# Altium integrated library Analog Devices Data Converters Analog-to-Digital Converters.IntLib: 2400 symbols (part 18 of 338)
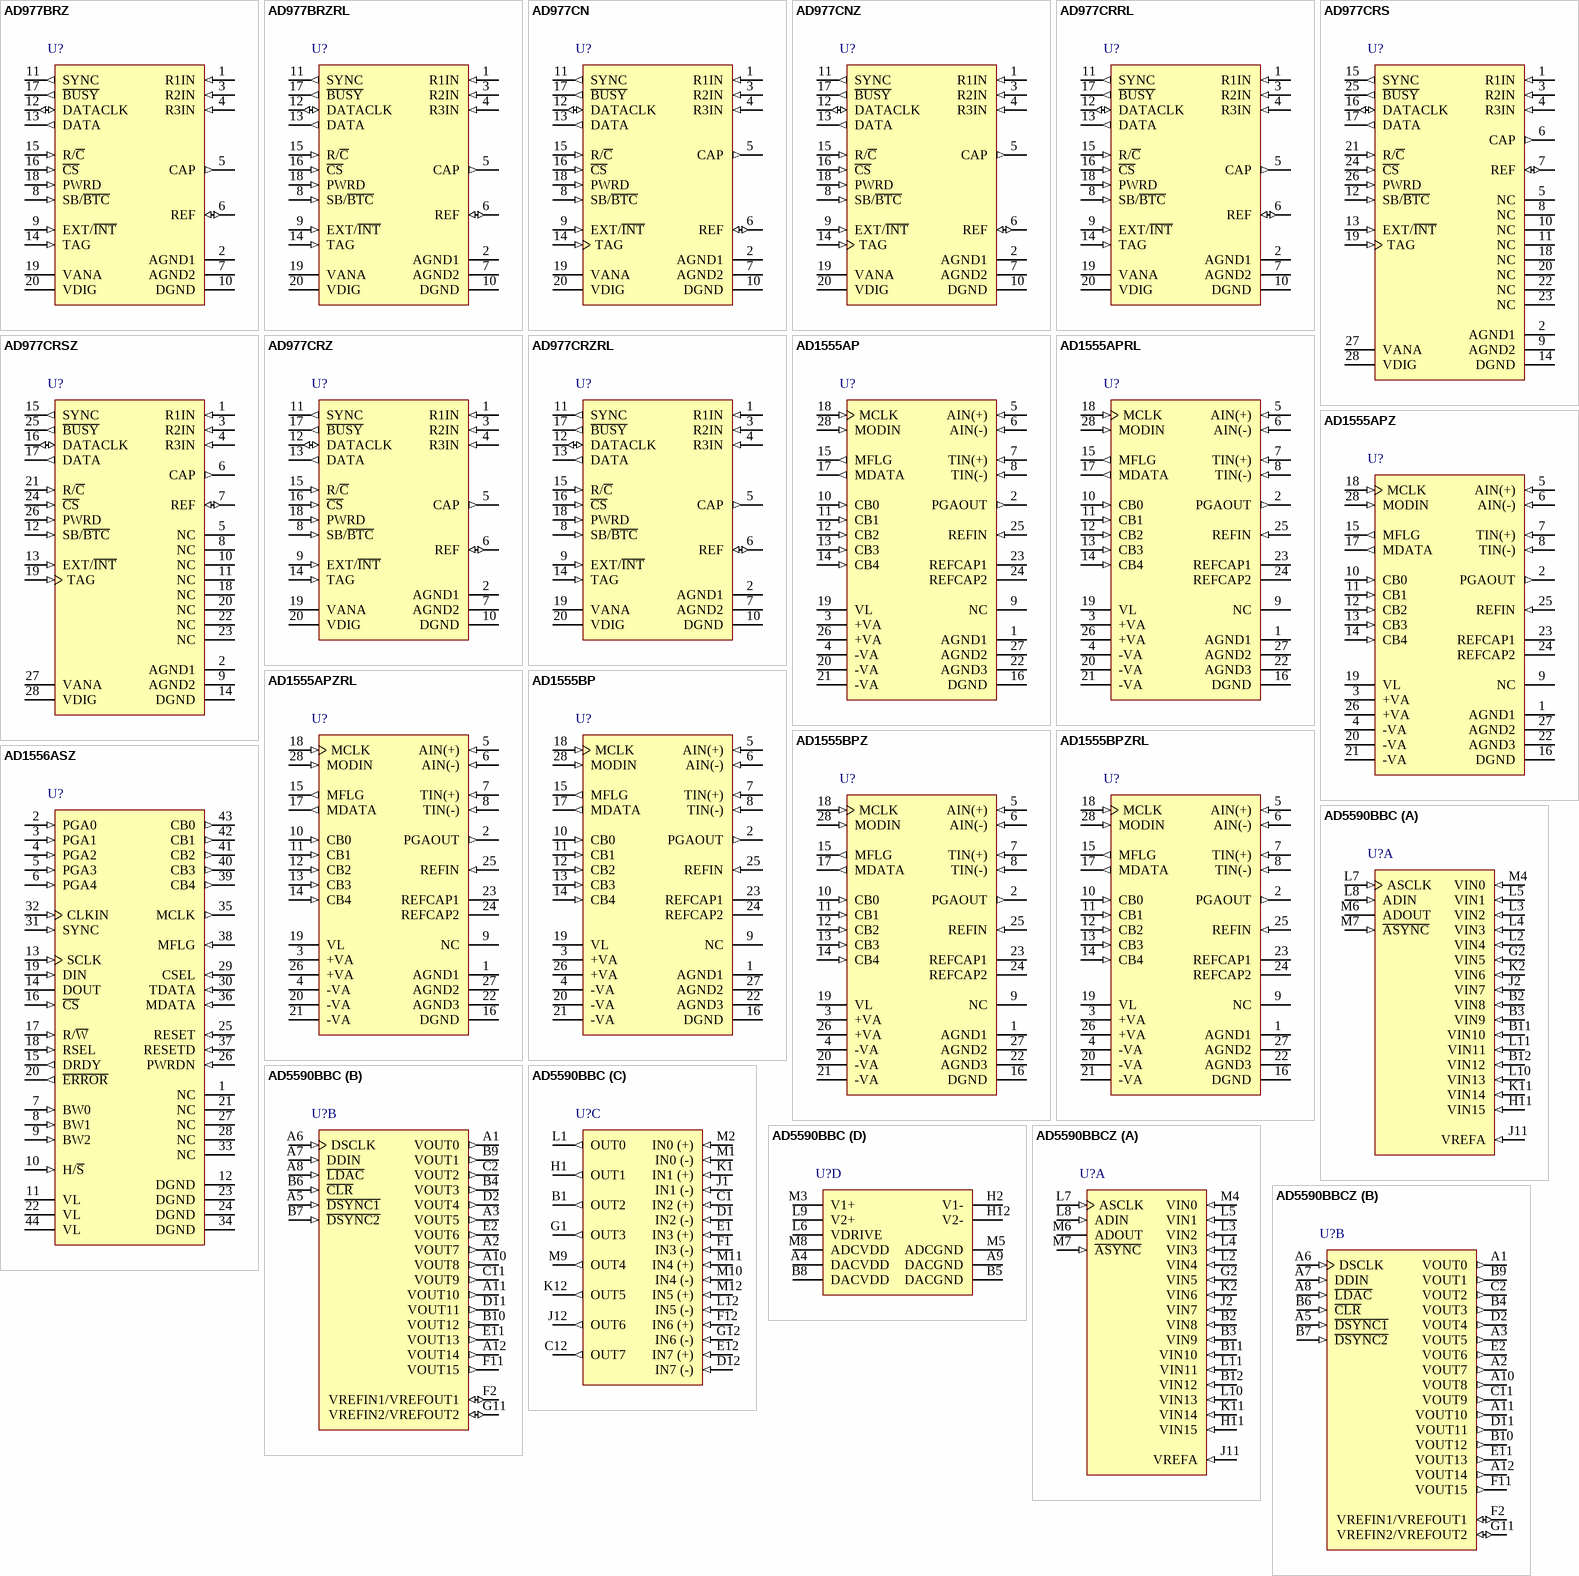
[diagram p264: symbols AD977BRZ to AD5590BBCZ]

## AD1555APZRL
designator U?
Dual 24-Bit Low Noise Sigma-Delta Analog-to-Digital Converter with Byte, Serial Interface and Low Noise PGA, 16KSPS, 0 to 85 degC, P-28, Pb-Free, Reel; Part Number: AD1555; Manufacturer: Analog Devices; Resolution (Bits): 24; Channels: 2; Throughput Rate (SPS): 16K; DatasheetVersion: Rev.B; PackageVersion: 042508-A; PackageReference: P-28; PackageDescription: 28-Lead Plastic Leaded Chip Carrier [PLCC]; Interface: Byte, Ser; RoHS: Y; Packing: Reel; Mounting Technology: Surface Mount; Code_JEDEC: MO-047-AB; ComponentLink1Description: Manufacturer URL; ComponentLink1URL: http://www.analog.com/en/index.html; ComponentLink2Description: Datasheet; ComponentLink2URL: http://www.analog.com/static/imported-files/data_sheets/AD1555_1556.pdf; ComponentLink3Description: Package Specification; ComponentLink3URL: http://www.analog.com/static/imported-files/packages/PKG_PDF/PLCC(P)/P_28.pdf; ComponentLink4Description: Product URL; ComponentLink4URL: http://www.analog.com/en/analog-to-digital-converters/ad-converters/ad1555/products/product.html
footprint P-28_N (Leaded Chip Carrier, 28-Leads, Body 11.5x11.5mm, Pitch 1.27mm, IPC Medium Density)
footprint P-28_L (Leaded Chip Carrier, 28-Leads, Body 11.5x11.5mm, Pitch 1.27mm, IPC High Density)
footprint P-28_M (Leaded Chip Carrier, 28-Leads, Body 11.5x11.5mm, Pitch 1.27mm, IPC Low Density)
pins: 1 AGND1 (power) "Analog Ground", 2 PGAOUT (out) "Programmable Gain Amplifier Output. The output of the on-chip programmable gain amplifier is available at this pin. Refer to Table III for PGA gain settings selection.", 3 +VA (power) "Positive Analog Supply Voltage. +5 V nominal.", 4 -VA (power) "Negative Analog Supply Voltage. -5 V nominal.", 5 AIN(+) (in) "Mux Input. Noninverting signal to the PGA mux input. Refer to Table III for input selection.", 6 AIN(-) (in) "Mux Input. Inverting signal to the PGA mux input. Refer to Table III for input selection.", 7 TIN(+) (in) "Mux Input. Noninverting test signal to the PGA mux input. Refer to Table III for input selection.", 8 TIN(-) (in) "Mux Input. Inverting test signal to the PGA mux input. Refer to Table III for input selection.", 9 NC "Pin for Factory Use Only. This pin must be kept not connected for normal operation.", 10 CB0 (in) "Modulator Control. These input pins control the mux selection, the PGA gain settings, and the standby modes of the AD1555. When used with the AD1556, these pins are generally directly tied to the CB0-CB4 output pins of the (See Datasheet)", 11 CB1 (in) "Modulator Control. These input pins control the mux selection, the PGA gain settings, and the standby modes of the AD1555. When used with the AD1556, these pins are generally directly tied to the CB0-CB4 output pins of the (See Datasheet)", 12 CB2 (in) "Modulator Control. These input pins control the mux selection, the PGA gain settings, and the standby modes of the AD1555. When used with the AD1556, these pins are generally directly tied to the CB0-CB4 output pins of the (See Datasheet)", 13 CB3 (in) "Modulator Control. These input pins control the mux selection, the PGA gain settings, and the standby modes of the AD1555. When used with the AD1556, these pins are generally directly tied to the CB0-CB4 output pins of the (See Datasheet)", 14 CB4 (in) "Modulator Control. These input pins control the mux selection, the PGA gain settings, and the standby modes of the AD1555. When used with the AD1556, these pins are generally directly tied to the CB0-CB4 output pins of the (See Datasheet)", 15 MFLG (out) "Modulator Error. Digital output that is pulsed high if an overrange condition occurs in the modulator.", 16 DGND (power) "Digital Ground", 17 MDATA (out) "Modulator Output. The bitstream generated by the modulator is output in a return-to-zero data format. The data is valid for approximately one-half a MCLK cycle. Refer to Figure 3.", 18 MCLK (in) "Clock Input. The clock input signal, nominally 256 kHz, provides the necessary clock for the sigma-? modulator. When this input is static, AD1555 is in the power-down mode.", 19 VL (power) "Positive Digital Supply Voltage. 5 V Nominal.", 20 -VA (power) "Negative Analog Supply Voltage. -5 V nominal.", 21 -VA (power) "Negative Analog Supply Voltage. -5 V nominal.", 22 AGND3 (power) "Analog Ground. Used as the ground reference for the REFIN pin.", 23 REFCAP1 "DAC Reference Filter. The reference input is internally divided and available at this pin to provide the reference for the sigma delta-delta modulator. Connect an external 22 µF (5 V min) tantalum capacitor from REFCAP1 to (See Datasheet)", 24 REFCAP2 "Reference Filter. The reference input is internally divided and available at this pin.", 25 REFIN (in) "Reference Input. This input accepts a 3 V level that is internally divided to provide the reference for the sigma-? modulator.", 26 +VA (power) "Positive Analog Supply Voltage. +5 V nominal.", 27 AGND2 (power) "Analog Ground.", 28 MODIN (in) "Modulator Input. Analog input to the modulator. Normally, this input is directly tied to PGAOUT output."

## AD1555BP
designator U?
Dual 24-Bit Low Noise Sigma-Delta Analog-to-Digital Converter with Byte, Serial Interface and Low Noise PGA, 16KSPS, -55 to +85 degC, P-28, Tube; Part Number: AD1555; Manufacturer: Analog Devices; Resolution (Bits): 24; Channels: 2; Throughput Rate (SPS): 16K; DatasheetVersion: Rev.B; PackageVersion: 042508-A; PackageReference: P-28; PackageDescription: 28-Lead Plastic Leaded Chip Carrier [PLCC]; Interface: Byte, Ser; RoHS: N; Packing: Tube; Mounting Technology: Surface Mount; Code_JEDEC: MO-047-AB; ComponentLink1Description: Manufacturer URL; ComponentLink1URL: http://www.analog.com/en/index.html; ComponentLink2Description: Datasheet; ComponentLink2URL: http://www.analog.com/static/imported-files/data_sheets/AD1555_1556.pdf; ComponentLink3Description: Package Specification; ComponentLink3URL: http://www.analog.com/static/imported-files/packages/PKG_PDF/PLCC(P)/P_28.pdf; ComponentLink4Description: Product URL; ComponentLink4URL: http://www.analog.com/en/analog-to-digital-converters/ad-converters/ad1555/products/product.html
footprint P-28_N (Leaded Chip Carrier, 28-Leads, Body 11.5x11.5mm, Pitch 1.27mm, IPC Medium Density)
footprint P-28_L (Leaded Chip Carrier, 28-Leads, Body 11.5x11.5mm, Pitch 1.27mm, IPC High Density)
footprint P-28_M (Leaded Chip Carrier, 28-Leads, Body 11.5x11.5mm, Pitch 1.27mm, IPC Low Density)
pins: 1 AGND1 (power) "Analog Ground", 2 PGAOUT (out) "Programmable Gain Amplifier Output. The output of the on-chip programmable gain amplifier is available at this pin. Refer to Table III for PGA gain settings selection.", 3 +VA (power) "Positive Analog Supply Voltage. +5 V nominal.", 4 -VA (power) "Negative Analog Supply Voltage. -5 V nominal.", 5 AIN(+) (in) "Mux Input. Noninverting signal to the PGA mux input. Refer to Table III for input selection.", 6 AIN(-) (in) "Mux Input. Inverting signal to the PGA mux input. Refer to Table III for input selection.", 7 TIN(+) (in) "Mux Input. Noninverting test signal to the PGA mux input. Refer to Table III for input selection.", 8 TIN(-) (in) "Mux Input. Inverting test signal to the PGA mux input. Refer to Table III for input selection.", 9 NC "Pin for Factory Use Only. This pin must be kept not connected for normal operation.", 10 CB0 (in) "Modulator Control. These input pins control the mux selection, the PGA gain settings, and the standby modes of the AD1555. When used with the AD1556, these pins are generally directly tied to the CB0-CB4 output pins of the (See Datasheet)", 11 CB1 (in) "Modulator Control. These input pins control the mux selection, the PGA gain settings, and the standby modes of the AD1555. When used with the AD1556, these pins are generally directly tied to the CB0-CB4 output pins of the (See Datasheet)", 12 CB2 (in) "Modulator Control. These input pins control the mux selection, the PGA gain settings, and the standby modes of the AD1555. When used with the AD1556, these pins are generally directly tied to the CB0-CB4 output pins of the (See Datasheet)", 13 CB3 (in) "Modulator Control. These input pins control the mux selection, the PGA gain settings, and the standby modes of the AD1555. When used with the AD1556, these pins are generally directly tied to the CB0-CB4 output pins of the (See Datasheet)", 14 CB4 (in) "Modulator Control. These input pins control the mux selection, the PGA gain settings, and the standby modes of the AD1555. When used with the AD1556, these pins are generally directly tied to the CB0-CB4 output pins of the (See Datasheet)", 15 MFLG (out) "Modulator Error. Digital output that is pulsed high if an overrange condition occurs in the modulator.", 16 DGND (power) "Digital Ground", 17 MDATA (out) "Modulator Output. The bitstream generated by the modulator is output in a return-to-zero data format. The data is valid for approximately one-half a MCLK cycle. Refer to Figure 3.", 18 MCLK (in) "Clock Input. The clock input signal, nominally 256 kHz, provides the necessary clock for the sigma-? modulator. When this input is static, AD1555 is in the power-down mode.", 19 VL (power) "Positive Digital Supply Voltage. 5 V Nominal.", 20 -VA (power) "Negative Analog Supply Voltage. -5 V nominal.", 21 -VA (power) "Negative Analog Supply Voltage. -5 V nominal.", 22 AGND3 (power) "Analog Ground. Used as the ground reference for the REFIN pin.", 23 REFCAP1 "DAC Reference Filter. The reference input is internally divided and available at this pin to provide the reference for the sigma delta-delta modulator. Connect an external 22 µF (5 V min) tantalum capacitor from REFCAP1 to (See Datasheet)", 24 REFCAP2 "Reference Filter. The reference input is internally divided and available at this pin.", 25 REFIN (in) "Reference Input. This input accepts a 3 V level that is internally divided to provide the reference for the sigma-? modulator.", 26 +VA (power) "Positive Analog Supply Voltage. +5 V nominal.", 27 AGND2 (power) "Analog Ground.", 28 MODIN (in) "Modulator Input. Analog input to the modulator. Normally, this input is directly tied to PGAOUT output."